# EAGLE library part AVR128DA48-I/6LX (library ds_ic_mcu)
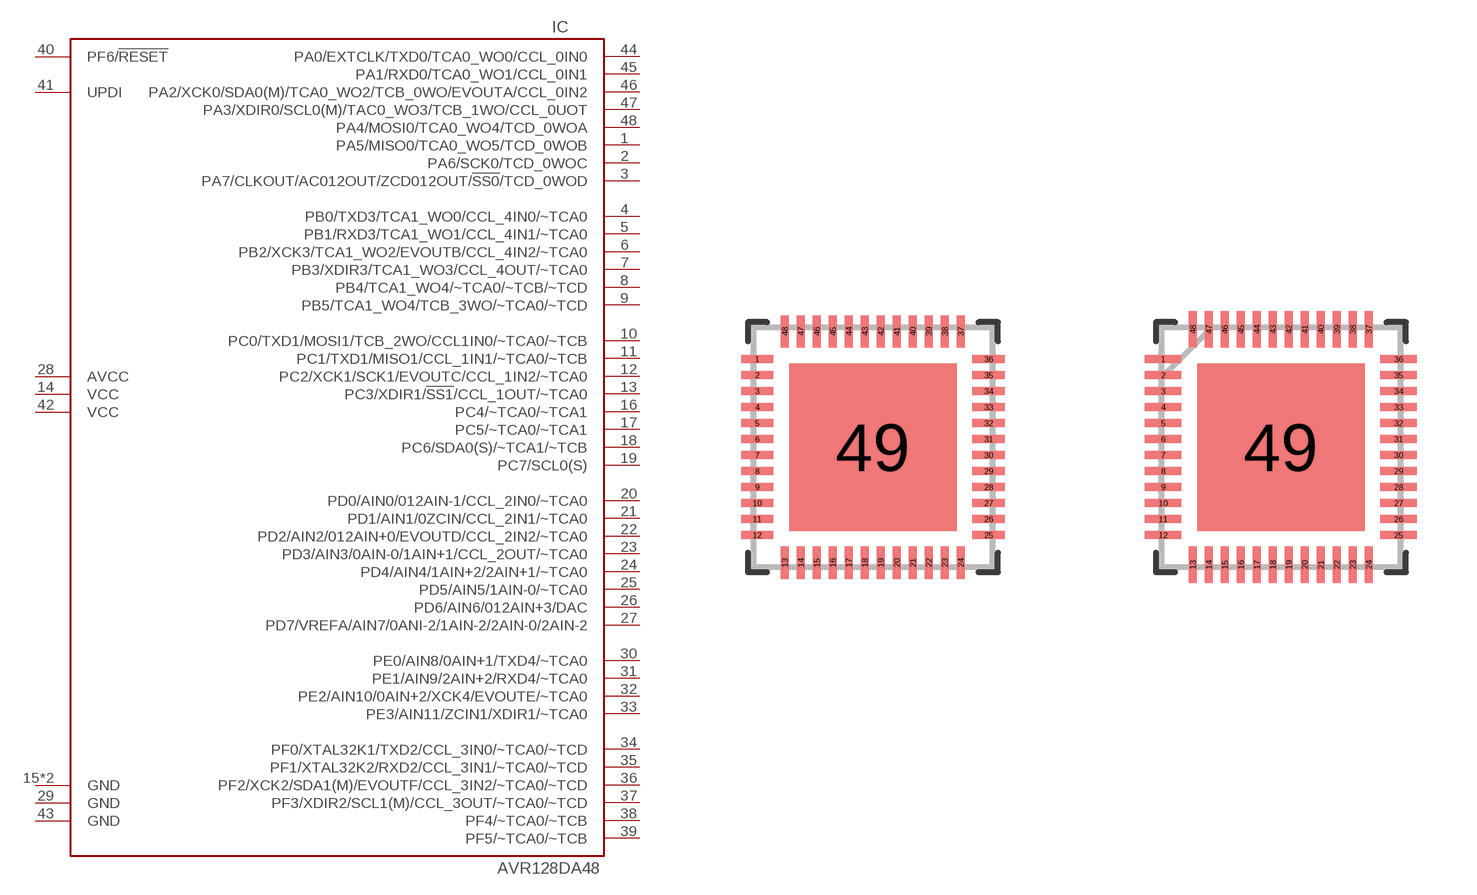
[diagram p7: symbol with the pads of VQFN48_6LX_MCH; footprints VQFN48_6LX_MCH, VQFN48_6LX_MCH-M]

Designator prefix IC

## AVR128DA48-I/6LX (BUILT_BY: EMA_Cory; COPYRIGHT: Copyright (C) 2018 Accelerated Designs. All rights reserved; DATASHEET: https://ww1.microchip.com/downloads/en/DeviceDoc/AVR128DA28-32-48-64-DataSheet-DS40002183B.pdf; MANUFACTURER_PART_NUMBER: AVR128DA48-I/6LX; SOURCELIBRARY: Microchip_2020-10-14; VENDOR: Microchip)  [VQFN48_6LX_MCH]
1  PA5/MISO0/TCA0_WO5/TCD_0WOB
2  PA6/SCK0/TCD_0WOC
3  PA7/CLKOUT/AC012OUT/ZCD012OUT/!SS0!/TCD_0WOD
4  PB0/TXD3/TCA1_WO0/CCL_4IN0/~TCA0
5  PB1/RXD3/TCA1_WO1/CCL_4IN1/~TCA0
6  PB2/XCK3/TCA1_WO2/EVOUTB/CCL_4IN2/~TCA0
7  PB3/XDIR3/TCA1_WO3/CCL_4OUT/~TCA0
8  PB4/TCA1_WO4/~TCA0/~TCB/~TCD
9  PB5/TCA1_WO4/TCB_3WO/~TCA0/~TCD
10  PC0/TXD1/MOSI1/TCB_2WO/CCL1IN0/~TCA0/~TCB
11  PC1/TXD1/MISO1/CCL_1IN1/~TCA0/~TCB
12  PC2/XCK1/SCK1/EVOUTC/CCL_1IN2/~TCA0
13  PC3/XDIR1/!SS1!/CCL_1OUT/~TCA0
14  VCC  pwr
15  GND  pwr
16  PC4/~TCA0/~TCA1
17  PC5/~TCA0/~TCA1
18  PC6/SDA0(S)/~TCA1/~TCB
19  PC7/SCL0(S)
20  PD0/AIN0/012AIN-1/CCL_2IN0/~TCA0
21  PD1/AIN1/0ZCIN/CCL_2IN1/~TCA0
22  PD2/AIN2/012AIN+0/EVOUTD/CCL_2IN2/~TCA0
23  PD3/AIN3/0AIN-0/1AIN+1/CCL_2OUT/~TCA0
24  PD4/AIN4/1AIN+2/2AIN+1/~TCA0
25  PD5/AIN5/1AIN-0/~TCA0
26  PD6/AIN6/012AIN+3/DAC
27  PD7/VREFA/AIN7/0ANI-2/1AIN-2/2AIN-0/2AIN-2
28  AVCC  pwr
29  GND  pwr
30  PE0/AIN8/0AIN+1/TXD4/~TCA0
31  PE1/AIN9/2AIN+2/RXD4/~TCA0
32  PE2/AIN10/0AIN+2/XCK4/EVOUTE/~TCA0
33  PE3/AIN11/ZCIN1/XDIR1/~TCA0
34  PF0/XTAL32K1/TXD2/CCL_3IN0/~TCA0/~TCD
35  PF1/XTAL32K2/RXD2/CCL_3IN1/~TCA0/~TCD
36  PF2/XCK2/SDA1(M)/EVOUTF/CCL_3IN2/~TCA0/~TCD
37  PF3/XDIR2/SCL1(M)/CCL_3OUT/~TCA0/~TCD
38  PF4/~TCA0/~TCB
39  PF5/~TCA0/~TCB
40  PF6/!RESET
41  UPDI
42  VCC  pwr
43  GND  pwr
44  PA0/EXTCLK/TXD0/TCA0_WO0/CCL_0IN0
45  PA1/RXD0/TCA0_WO1/CCL_0IN1
46  PA2/XCK0/SDA0(M)/TCA0_WO2/TCB_0WO/EVOUTA/CCL_0IN2
47  PA3/XDIR0/SCL0(M)/TAC0_WO3/TCB_1WO/CCL_0UOT
48  PA4/MOSI0/TCA0_WO4/TCD_0WOA
49  GND  pwr

## AVR128DA48-I/6LXVQFN48_6LX_MCH-M (BUILT_BY: EMA_Cory; COPYRIGHT: Copyright (C) 2018 Accelerated Designs. All rights reserved; DATASHEET: https://ww1.microchip.com/downloads/en/DeviceDoc/AVR128DA28-32-48-64-DataSheet-DS40002183B.pdf; MANUFACTURER_PART_NUMBER: AVR128DA48-I/6LX; SOURCELIBRARY: Microchip_2020-10-14; VENDOR: Microchip)  [VQFN48_6LX_MCH-M]
Pads as for VQFN48_6LX_MCH

## AVR128DA48-I/6LXVQFN48_6LX_MCH-L (BUILT_BY: EMA_Cory; COPYRIGHT: Copyright (C) 2018 Accelerated Designs. All rights reserved; DATASHEET: https://ww1.microchip.com/downloads/en/DeviceDoc/AVR128DA28-32-48-64-DataSheet-DS40002183B.pdf; MANUFACTURER_PART_NUMBER: AVR128DA48-I/6LX; SOURCELIBRARY: Microchip_2020-10-14; VENDOR: Microchip)  [VQFN48_6LX_MCH-L]
Pads as for VQFN48_6LX_MCH

## Footprint VQFN48_6LX_MCH (pad centres in mm)
smd 0.808 x 0.204: 1 -2.893,2.2; 2 -2.893,1.8; 3 -2.893,1.4; 4 -2.893,1; 5 -2.893,0.6; 6 -2.893,0.2; 7 -2.893,-0.2; 8 -2.893,-0.6; 9 -2.893,-1; 10 -2.893,-1.4; 11 -2.893,-1.8; 12 -2.893,-2.2; 25 2.893,-2.2; 26 2.893,-1.8; 27 2.893,-1.4; 28 2.893,-1; 29 2.893,-0.6; 30 2.893,-0.2; 31 2.893,0.2; 32 2.893,0.6; 33 2.893,1; 34 2.893,1.4; 35 2.893,1.8; 36 2.893,2.2
smd 0.204 x 0.808: 13 -2.2,-2.893; 14 -1.8,-2.893; 15 -1.4,-2.893; 16 -1,-2.893; 17 -0.6,-2.893; 18 -0.2,-2.893; 19 0.2,-2.893; 20 0.6,-2.893; 21 1,-2.893; 22 1.4,-2.893; 23 1.8,-2.893; 24 2.2,-2.893; 37 2.2,2.893; 38 1.8,2.893; 39 1.4,2.893; 40 1,2.893; 41 0.6,2.893; 42 0.2,2.893; 43 -0.2,2.893; 44 -0.6,2.893; 45 -1,2.893; 46 -1.4,2.893; 47 -1.8,2.893; 48 -2.2,2.893
smd 4.191 x 4.191: 49 0,0

## Footprint VQFN48_6LX_MCH-M (pad centres in mm)
smd 0.908 x 0.204: 1 -2.943,2.2; 2 -2.943,1.8; 3 -2.943,1.4; 4 -2.943,1; 5 -2.943,0.6; 6 -2.943,0.2; 7 -2.943,-0.2; 8 -2.943,-0.6; 9 -2.943,-1; 10 -2.943,-1.4; 11 -2.943,-1.8; 12 -2.943,-2.2; 25 2.943,-2.2; 26 2.943,-1.8; 27 2.943,-1.4; 28 2.943,-1; 29 2.943,-0.6; 30 2.943,-0.2; 31 2.943,0.2; 32 2.943,0.6; 33 2.943,1; 34 2.943,1.4; 35 2.943,1.8; 36 2.943,2.2
smd 0.204 x 0.908: 13 -2.2,-2.943; 14 -1.8,-2.943; 15 -1.4,-2.943; 16 -1,-2.943; 17 -0.6,-2.943; 18 -0.2,-2.943; 19 0.2,-2.943; 20 0.6,-2.943; 21 1,-2.943; 22 1.4,-2.943; 23 1.8,-2.943; 24 2.2,-2.943; 37 2.2,2.943; 38 1.8,2.943; 39 1.4,2.943; 40 1,2.943; 41 0.6,2.943; 42 0.2,2.943; 43 -0.2,2.943; 44 -0.6,2.943; 45 -1,2.943; 46 -1.4,2.943; 47 -1.8,2.943; 48 -2.2,2.943
smd 4.191 x 4.191: 49 0,0

## Footprint VQFN48_6LX_MCH-L (pad centres in mm)
smd 0.708 x 0.204: 1 -2.843,2.2; 2 -2.843,1.8; 3 -2.843,1.4; 4 -2.843,1; 5 -2.843,0.6; 6 -2.843,0.2; 7 -2.843,-0.2; 8 -2.843,-0.6; 9 -2.843,-1; 10 -2.843,-1.4; 11 -2.843,-1.8; 12 -2.843,-2.2; 25 2.843,-2.2; 26 2.843,-1.8; 27 2.843,-1.4; 28 2.843,-1; 29 2.843,-0.6; 30 2.843,-0.2; 31 2.843,0.2; 32 2.843,0.6; 33 2.843,1; 34 2.843,1.4; 35 2.843,1.8; 36 2.843,2.2
smd 0.204 x 0.708: 13 -2.2,-2.843; 14 -1.8,-2.843; 15 -1.4,-2.843; 16 -1,-2.843; 17 -0.6,-2.843; 18 -0.2,-2.843; 19 0.2,-2.843; 20 0.6,-2.843; 21 1,-2.843; 22 1.4,-2.843; 23 1.8,-2.843; 24 2.2,-2.843; 37 2.2,2.843; 38 1.8,2.843; 39 1.4,2.843; 40 1,2.843; 41 0.6,2.843; 42 0.2,2.843; 43 -0.2,2.843; 44 -0.6,2.843; 45 -1,2.843; 46 -1.4,2.843; 47 -1.8,2.843; 48 -2.2,2.843
smd 4.191 x 4.191: 49 0,0